# EAGLE library part B6PS-VH (library con-JST VH)
JST VH Series header 3.96mm pitch disconnectable crimp style connectors, horizontal (side entry type), 6 pins
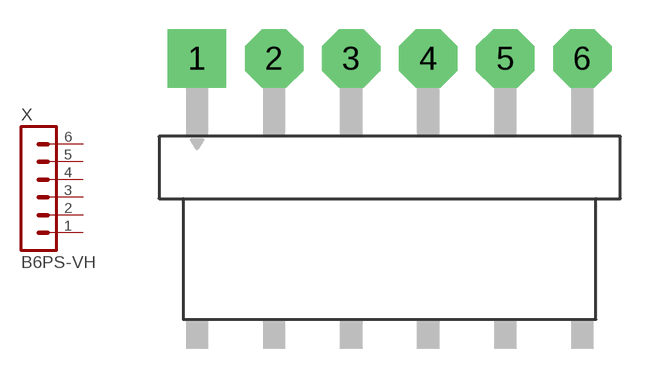
[diagram p6: symbol with the pads of B6PS-VH; footprint B6PS-VH]

Designator prefix X

## B6PS-VH  [B6PS-VH]
1  1  pas
2  2  pas
3  3  pas
4  4  pas
5  5  pas
6  6  pas

## Footprint B6PS-VH (pad centres in mm)
JST VH Series header 3.96mm pitch disconnectable crimp style connectors, horizontal (side entry type), 6 pins
drill 1.7 pad 3 square: 1 -9.9,0
drill 1.7 pad 3 octagon: 2 -5.94,0; 3 -1.98,0; 4 1.98,0; 5 5.94,0; 6 9.9,0